# Altium schematic symbol library robotBoard.SchLib: 26 symbols
Pins are listed as number, name and electrical type; pins without a type are passive.

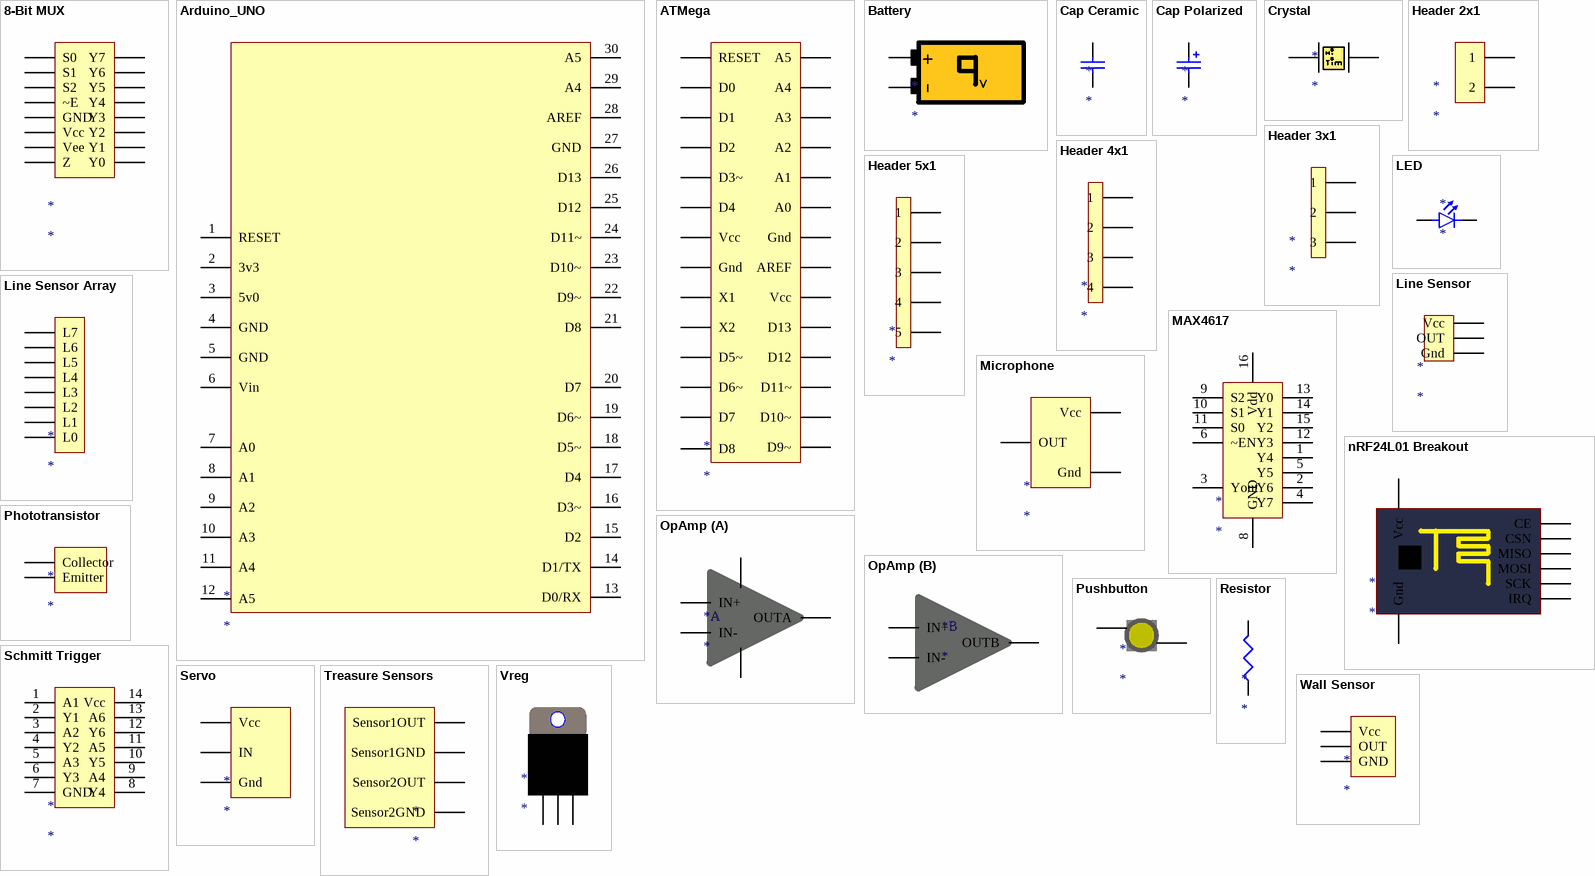
[diagram p0: symbols 8-Bit MUX to Wall Sensor]

## 8-Bit MUX
designator *
footprint MUX&LineSensors_
pins: 0 Y0, 1 Y1, 2 Y2, 3 Y3, 4 Y4, 5 Y5, 6 Y6, 7 Y7, 8 S0, 9 S1, 10 S2, 11 ~E, 12 GND, 13 Vcc, 14 Vee, 15 Z

## Arduino_UNO
designator *
footprint Arduino_UNO
pins: 1 RESET, 2 3v3, 3 5v0, 4 GND, 5 GND, 6 Vin, 7 A0, 8 A1, 9 A2, 10 A3, 11 A4, 12 A5, 13 D0/RX, 14 D1/TX, 15 D2, 16 D3~, 17 D4, 18 D5~, 19 D6~, 20 D7, 21 D8, 22 D9~, 23 D10~, 24 D11~, 25 D12, 26 D13, 27 GND, 28 AREF, 29 A4, 30 A5

## ATMega
designator *
footprint DIP-28
pins: 1 RESET, 2 D0, 3 D1, 4 D2, 5 D3~, 6 D4, 7 Vcc, 8 Gnd, 9 X1, 10 X2, 11 D5~, 12 D6~, 13 D7, 14 D8, 15 D9~, 16 D10~, 17 D11~, 18 D12, 19 D13, 20 Vcc, 21 AREF, 22 Gnd, 23 A0, 24 A1, 25 A2, 26 A3, 27 A4, 28 A5

## Battery
designator *
footprint Terminal 2-Pos
pins: 1 V+, 2 v-

## Cap Ceramic
designator *
footprint Capacitor
pins: 1, 2

## Cap Polarized
designator *
footprint Capacitor
pins: 1, 2

## Crystal
designator *
footprint Crystal_2
pins: 1, 2

## Header 2x1
designator *
footprint Header 2x1
footprint Terminal 2Pos
pins: 1, 2

## Header 3x1
designator *
footprint Header 3x1
footprint Terminal 3Pos
pins: 1, 2, 3

## Header 4x1
designator *
footprint Header 4x1
footprint Terminal 4Pos
pins: 1, 2, 3, 4

## Header 5x1
designator *
footprint Header 5x1
pins: 1, 2, 3, 4, 5

## LED
designator *
footprint LED
pins: 1 Anode (+), 2 Cathode (-)

## Line Sensor
designator *
footprint Terminal 3-Pos
pins: 1 Vcc, 2 Gnd, 3 OUT

## Line Sensor Array
designator *
pins: 1 L7, 2 L6, 3 L5, 4 L4, 5 L3, 6 L2, 7 L1, 8 L0

## MAX4617
designator *
footprint DIP-16
pins: 1 Y4, 2 Y6, 3 Yout, 4 Y7, 5 Y5, 6 ~EN, 8 GND, 9 S2, 10 S1, 11 S0, 12 Y3, 13 Y0, 14 Y1, 15 Y2, 16 Vdd

## Microphone
designator *
footprint Header 3x1
pins: 1 OUT, 2 Gnd, 3 Vcc

## nRF24L01 Breakout
designator *
footprint Radio Header_
pins: 1 Gnd, 2 SCK, 2 IRQ, 3 MISO, 4 MOSI, 5 CSN, 6 CE, 7 Vcc

## OpAmp
designator *
footprint DIP-8
part A pins: 1 OUTA, 2 IN-, 3 IN+, 4 GND, 8 Vcc
part B pins: 5 IN+, 6 IN-, 7 OUTB

## Phototransistor
designator *
footprint Header 2x1
pins: 1 Collector, 2 Emitter

## Pushbutton
designator *
footprint Pushbutton
pins: 1, 2

## Resistor
designator *
footprint Resistor
pins: 1, 2

## Schmitt Trigger
designator *
footprint DIP-14
pins: 1 A1, 2 Y1, 3 A2, 4 Y2, 5 A3, 6 Y3, 7 GND, 8 Y4, 9 A4, 10 Y5, 11 A5, 12 Y6, 13 A6, 14 Vcc

## Servo
designator *
footprint Terminal 3-Pos
pins: 1 Vcc, 2 Gnd, 3 IN

## Treasure Sensors
designator *
footprint Terminal 4-Pos
pins: 1 Sensor1OUT, 2 Sensor1GND, 3 Sensor2OUT, 4 Sensor2GND

## Vreg
designator *
footprint Vreg
pins: 1 Vin, 2 GND, 3 Vout

## Wall Sensor
designator *
footprint Terminal 3-Pos
pins: 1 Vcc, 2 OUT, 3 GND